# Altium integrated library SDR0403-4R7ML.IntLib: 1 symbol
Pins are listed as number, name and electrical type; pins without a type are passive.

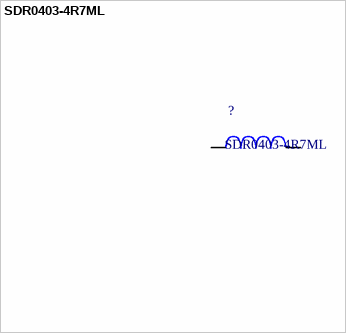
[diagram p0: symbol SDR0403-4R7ML]

## SDR0403-4R7ML
designator ?
/ 4.7ÂµH Unshielded Wirewound Inductor 1.7A 94mOhm Max Nonstandard /; MF: Bourns; Availability: Unavailable; Price: None; SnapEDA_Link: https://www.snapeda.com/parts/SDR0403-4R7ML/Bourns/view-part/337560/?ref=snap; MP: SDR0403-4R7ML; Package: Nonstandard Bourns; Value: *
footprint *SDR0403
pins: 1, 2